# Altium footprint library C2917.PcbLib: 3 footprints
Each footprint in its own frame and in the unit in brackets; x right, y up, seen from the top. Pads: shape width x height; smd on the part's side, far side on the other; paste and mask are expansions set on the pad; w line width, h text height; cw(c..) or ccw(c..) is an arc to the next point about the centre after c.
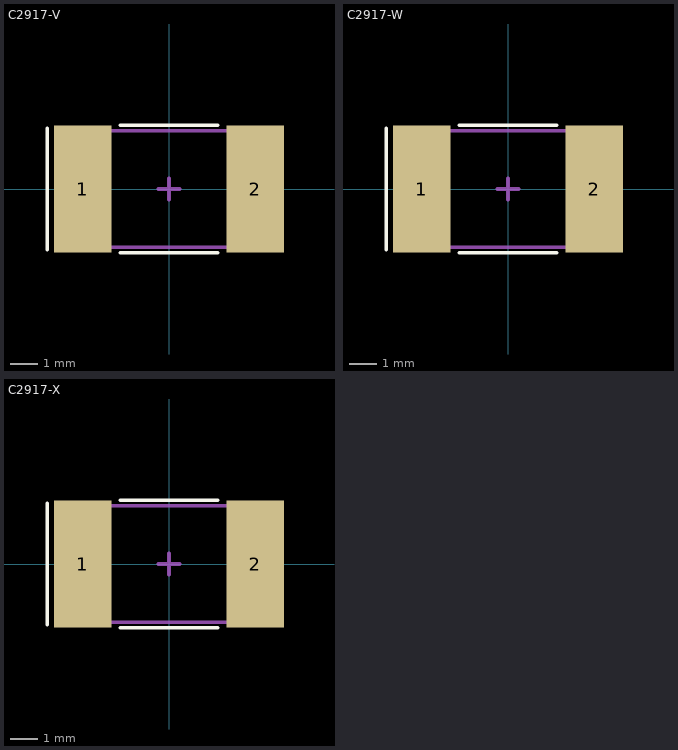
[diagram p0: the footprints below, top view; thin cyan lines are the x and y axes]

## C2917-V [mm]
height 2
pads (2):
  rect 2.07x4.61 smd mask+0.051: 1(-3.121,0) 2(3.121,0)
Top Overlay:
  lines w0.127: -4.4,-2.2 -4.4,2.2 ; -1.77,-2.3 1.77,-2.3 ; -1.77,2.3 1.77,2.3
Top Designator:
  text ".Designator" at -7.746,-0.508 h1.52
Mechanical 13:
  lines w0.127: -3.6,-2.1 -3.6,2.1 3.6,2.1 3.6,-2.1 -3.6,-2.1
Mechanical 15:
  lines w0.127: -0.381,0 0,0 ; 0,-0.381 0,0 ; 0,0.381 0,0 ; 0.381,0 0,0
3D body "V 7343-20.step": height 1.81, standoff 0, extent -3.65,-2.15 3.65,2.15

## C2917-W [mm]
pads (2):
  rect 2.07x4.61 smd mask+0.051: 1(-3.121,0) 2(3.121,0)
Top Overlay:
  lines w0.127: -4.4,-2.2 -4.4,2.2 ; -1.77,-2.3 1.77,-2.3 ; -1.77,2.3 1.77,2.3
Top Designator:
  text ".Designator" at -7.746,-0.508 h1.52
Mechanical 13:
  lines w0.127: -3.6,-2.1 -3.6,2.1 3.6,2.1 3.6,-2.1 -3.6,-2.1
Mechanical 15:
  lines w0.127: -0.381,0 0,0 ; 0,-0.381 0,0 ; 0,0.381 0,0 ; 0.381,0 0,0
3D body "W 7343-15.step": height 1.41, standoff 0, extent -3.65,-2.15 3.65,2.15

## C2917-X [mm]
pads (2):
  rect 2.07x4.61 smd mask+0.051: 1(-3.121,0) 2(3.121,0)
Top Overlay:
  lines w0.127: -4.4,-2.2 -4.4,2.2 ; -1.77,-2.3 1.77,-2.3 ; -1.77,2.3 1.77,2.3
Top Designator:
  text ".Designator" at -7.746,-0.508 h1.52
Mechanical 13:
  lines w0.127: -3.6,-2.1 3.6,-2.1 3.6,2.1 -3.6,2.1 -3.6,-2.1
Mechanical 15:
  lines w0.127: -0.381,0 0,0 ; 0,-0.381 0,0 ; 0,0.381 0,0 ; 0.381,0 0,0
3D body "X 7343-43.step": height 4.01, standoff 0, extent -3.65,-2.15 3.65,2.15